# Altium footprint library LPS6235.PcbLib: 1 footprints
Each footprint in its own frame and in the unit in brackets; x right, y up, seen from the top. Pads: shape width x height; smd on the part's side, far side on the other; paste and mask are expansions set on the pad; w line width, h text height; cw(c..) or ccw(c..) is an arc to the next point about the centre after c.
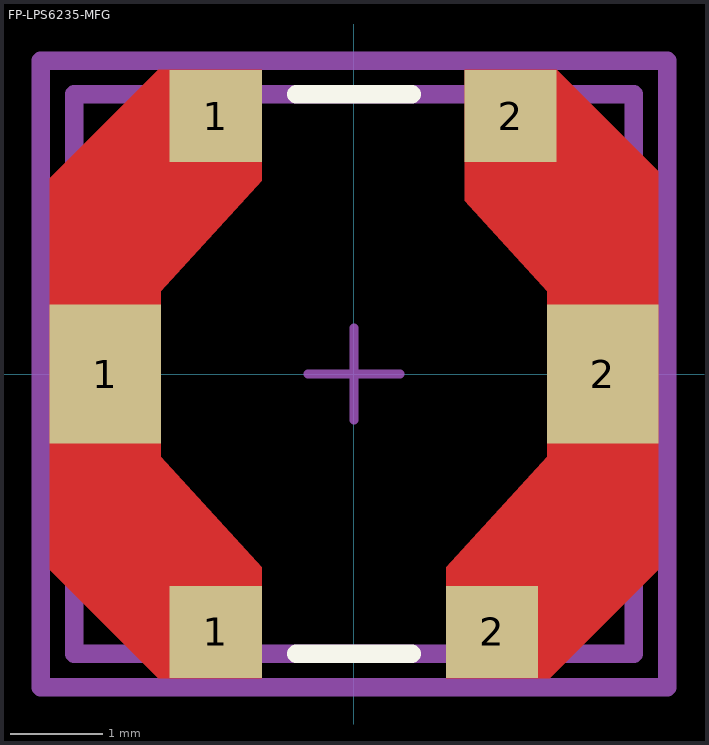
[diagram p0: the footprint, top view; thin cyan lines are the x and y axes]

## FP-LPS6235-MFG [mm]
pads (6):
  rect 1.21x1.507 smd paste-10: 1(-2.7,0) 2(2.7,0)
  rect 1x1 smd paste-10 mask+0: 1(-1.5,-2.8) 1(-1.5,2.8) 2(1.5,-2.8) 2(1.7,2.8)
Top Layer:
  region: 2.2,3.3 3.3,2.2 3.3,-2.125 2.125,-3.3 1,-3.3 1,-2.1 2.1,-0.9 2.1,0.9 1.2,1.882 1.2,3.3
  region: -2.125,3.3 -3.3,2.125 -3.3,-2.125 -2.125,-3.3 -1,-3.3 -1,-2.1 -2.1,-0.9 -2.1,0.9 -1,2.1 -1,3.3
Top Overlay:
  lines w0.2: -0.625,-3.038 0.625,-3.038 ; -0.625,3.038 0.625,3.038
Top Paste:
  region: -2.3,2.8 -3.1,2 -3.1,0.4 -2.3,0.4 -2.3,1.073 -1.4,2.055 -1.4,2.8
  region: -2.3,-2.8 -3.1,-2 -3.1,-0.4 -2.3,-0.4 -2.3,-1.073 -1.4,-2.055 -1.4,-2.8
  region: 2.3,-2.8 3.1,-2 3.1,-0.4 2.3,-0.4 2.3,-1.073 1.4,-2.055 1.4,-2.8
  region: 2.3,2.8 3.1,2 3.1,0.4 2.3,0.4 2.3,1.073 1.4,2.055 1.4,2.8
Top Assembly:
  lines w0.2: -3.4,-3.4 -3.4,3.4 3.4,3.4 3.4,-3.4 -3.4,-3.4
  text ".Designator" at 0,-0.001 h1
Top 3D Body:
  lines w0.2: -3.038,-3.038 -3.038,3.038 3.038,3.038 3.038,-3.038 -3.038,-3.038
Top Courtyard:
  lines w0.2: -3.4,-3.4 -3.4,3.4 3.4,3.4 3.4,-3.4 -3.4,-3.4
Top Component Center:
  lines w0.1: -0.5,0 0.5,0 ; 0,-0.5 0,0.5
3D body "Ind_coilcraft_LPS6235-333MRC_eec.STEP": height 0.25, standoff 0, extent -3.4,-3.4 3.4,3.4